# EAGLE library part XRJF (library con-xmultiple)
RC45 schielded, without LED, with transformer, side entry PCB Jack Source: XRJF-01A-0-D2A-010(01).pdf
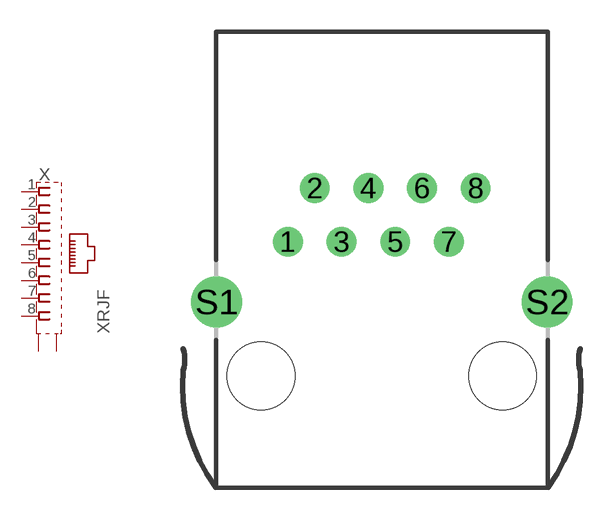
[diagram p2: symbol with the pads of XRJF-01A-0-D2A-010; footprint XRJF-01A-0-D2A-010]

Designator prefix X

## XRJF-01A-0-D22-020, XRJF-01A-0-D23-010, XRJF-01A-0-D2A-010, XRJFF-01A-0-D22-010  [XRJF-01A-0-D2A-010]
1  1  pas
2  2  pas
3  3  pas
4  4  pas
5  5  pas
6  6  pas
7  7  pas
8  8  pas
S1  S  pas
S2  S  pas

## Footprint XRJF-01A-0-D2A-010 (pad centres in mm)
RC45 without LED, schielded, with transformer, side entry PCB Jack Source: XRJF-01A-0-D2A-010(01).pdf
drill 0.9 pad 1.27: 1 -4.445,6.35; 2 -3.175,8.89; 3 -1.905,6.35; 4 -0.635,8.89; 5 0.635,6.35; 6 1.905,8.89; 7 3.175,6.35; 8 4.445,8.89
drill 1.6 pad 2.184: S1 -7.825,3.5; S2 7.825,3.5
hole 3.2 at -5.715,0
hole 3.2 at 5.715,0